# Altium integrated library SAMTEC-TSW-113-07-X-S.IntLib: 1 symbol
Pins are listed as number, name and electrical type; pins without a type are passive.

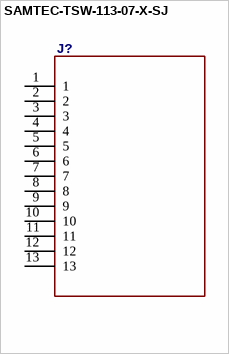
[diagram p0: symbol SAMTEC-TSW-113-07-X-SJ]

## SAMTEC-TSW-113-07-X-SJ
designator J?
footprint SAMTEC-TSW-113-07-X-S
pins: 1, 2, 3, 4, 5, 6, 7, 8, 9, 10, 11, 12, 13